# Altium footprint library Samtec.PcbLib: 4 footprints
Each footprint in its own frame and in the unit in brackets; x right, y up, seen from the top. Pads: shape width x height; smd on the part's side, far side on the other; paste and mask are expansions set on the pad; w line width, h text height; cw(c..) or ccw(c..) is an arc to the next point about the centre after c.
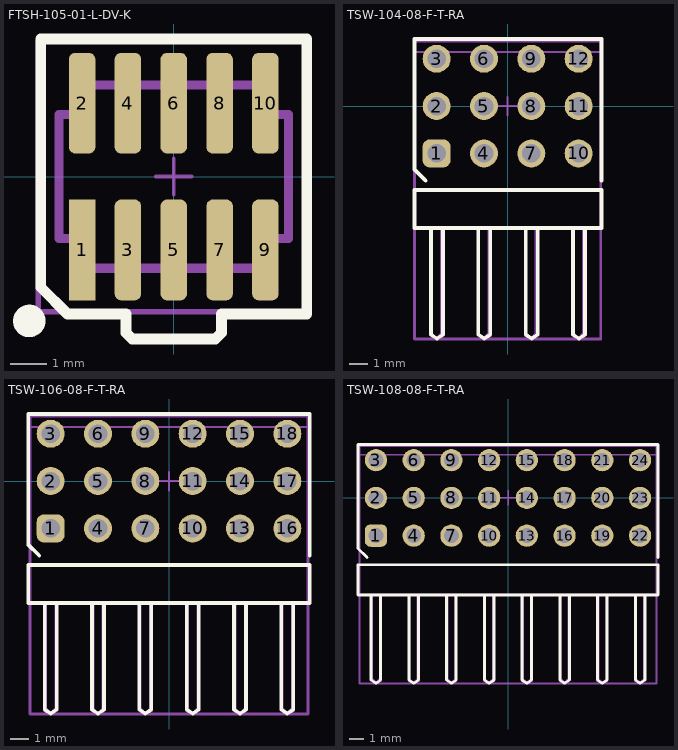
[diagram p0: the footprints below, top view; thin cyan lines are the x and y axes]

## FTSH-105-01-L-DV-K [mil] "CONN HEADER 10 POS DUAL .05\" SMD"
pads (10):
  rect 29x110 smd mask+2: 1(-100,-80)
  rrect50% 29x110 smd mask+2: 2(-100,80) 3(-50,-80) 4(-50,80) 5(0,-80) 6(0,80) 7(50,-80) 8(50,80) 9(100,-80) 10(100,80)
Top Overlay:
  circle w19.68: c-157.48,-157.48 r7.87
  lines w11.81: -145,-120.75 -145,150 145,150 145,-150 72.5,-150 52.13,-150 52.13,-170.37 45.33,-177.17 -45.33,-177.17 -52.13,-170.37 -52.13,-150 -72.5,-150 -115.75,-150 -145,-120.75
Mechanical 13:
  lines w10: -125,-67.5 -125,67.5 -100,67.5 -100,100 100,100 100,67.5 125,67.5 125,-67.5 100,-67.5 100,-100 -100,-100 -100,-67.5 -125,-67.5
Mechanical 15:
  lines w3.94: -19.68,0 19.68,0 ; 0,-19.68 0,19.68
  lines w5.91: -147.64,-147.64 -147.64,147.64 147.64,147.64 147.64,-147.64 -147.64,-147.64
Mechanical 17 (Mech17):
  text ".Designator" at -15.75,-7.87 h59.06
3D body "FTSH-105-01-L-DV-K.stp": height 240.75, standoff -0.25, extent -124.99,-114.99 125,115

## TSW-104-08-F-T-RA [mm]
pads (12):
  rrect50% 1.5x1.5 hole 1: 1(-3.81,-2.54)
  round 1.5 hole 1: 2(-3.81,0) 3(-3.81,2.54) 4(-1.27,-2.54) 5(-1.27,0) 6(-1.27,2.54) 7(1.27,-2.54) 8(1.27,0) 9(1.27,2.54) 10(3.81,-2.54) 11(3.81,0) 12(3.81,2.54)
Top Overlay:
  lines w0.2: -4.4,-4 -5,-3.4 -5,3.6 5.04,3.6 5.04,-4 ; -4.11,-6.545 -4.11,-12.27 -3.79,-12.47 -3.47,-12.27 -3.47,-6.545 ; -1.57,-6.545 -1.57,-12.27 -1.25,-12.47 -0.93,-12.27 -0.93,-6.545 ; 0.97,-6.545 0.97,-12.27 1.29,-12.47 1.61,-12.27 1.61,-6.545 ; 3.51,-6.545 3.51,-12.27 3.83,-12.47 4.15,-12.27 4.15,-6.545 ; -5,-6.545 -5,-4.5 5.04,-4.5 5.04,-6.545 -5,-6.545
Mechanical 13:
  lines w0.1: -4.075,-6.5 -4.075,-12.196 -3.825,-12.446 -3.575,-12.196 ; -3.575,-6.5 -3.575,-12.196 ; -1.54,-6.5 -1.54,-12.192 -1.29,-12.442 -1.04,-12.192 ; -1.04,-6.5 -1.04,-12.192 ; 1,-6.5 1,-12.196 1.25,-12.446 1.5,-12.196 ; 1.5,-6.5 1.5,-12.196 ; 3.54,-6.5 3.54,-12.196 3.79,-12.446 4.04,-12.196 ; 4.04,-6.5 4.04,-12.196 ; -3.575,-12.196 -3.575,-12.196 ; -1.04,-12.192 -1.04,-12.192 ; 1.5,-12.196 1.5,-12.196 ; 4.04,-12.196 4.04,-12.196 ; -5,-6.5 -5,2.9 5.02,2.9 5.02,-6.5 -5,-6.5
Mechanical 15:
  lines w0.1: -0.5,0 0.5,0 ; 0,-0.5 0,0.5
  lines w0.15: -5,-12.5 -5,3.5 5,3.5 5,-12.5 -5,-12.5
Mechanical 17 (Mech17):
  text ".Designator" at -0.4,-0.2 h1.5
3D body "TSW-104-08-F-T-RA.stp": height 0.6, standoff -9.81, extent -5.08,-12.432 5.08,2.871

## TSW-106-08-F-T-RA [mm]
pads (18):
  rrect50% 1.5x1.5 hole 1: 1(-6.35,-2.54)
  round 1.5 hole 1: 2(-6.35,0) 3(-6.35,2.54) 4(-3.81,-2.54) 5(-3.81,0) 6(-3.81,2.54) 7(-1.27,-2.54) 8(-1.27,0) 9(-1.27,2.54) 10(1.27,-2.54) 11(1.27,0) 12(1.27,2.54) 13(3.81,-2.54) 14(3.81,0) 15(3.81,2.54) 16(6.35,-2.54) 17(6.35,0) 18(6.35,2.54)
Top Overlay:
  lines w0.2: -6.96,-4 -7.56,-3.4 -7.56,3.6 7.56,3.6 7.56,-4 ; -6.67,-6.545 -6.67,-12.27 -6.35,-12.47 -6.03,-12.27 -6.03,-6.545 ; -4.13,-6.545 -4.13,-12.27 -3.81,-12.47 -3.49,-12.27 -3.49,-6.545 ; -1.59,-6.545 -1.59,-12.27 -1.27,-12.47 -0.95,-12.27 -0.95,-6.545 ; 0.95,-6.545 0.95,-12.27 1.27,-12.47 1.59,-12.27 1.59,-6.545 ; 3.49,-6.545 3.49,-12.27 3.81,-12.47 4.13,-12.27 4.13,-6.545 ; 6.03,-6.545 6.03,-12.27 6.35,-12.47 6.67,-12.27 6.67,-6.545 ; -7.56,-6.545 -7.56,-4.5 7.56,-4.5 7.56,-6.545 -7.56,-6.545
Mechanical 13:
  lines w0.1: -6.596,-6.5 -6.596,-12.192 -6.346,-12.442 -6.096,-12.192 ; -6.096,-6.5 -6.096,-12.192 ; -4.06,-6.5 -4.06,-12.196 -3.81,-12.446 -3.56,-12.196 ; -3.56,-6.5 -3.56,-12.196 ; -1.52,-6.5 -1.52,-12.196 -1.27,-12.446 -1.02,-12.196 ; -1.02,-6.5 -1.02,-12.196 ; 1.02,-6.5 1.02,-12.196 1.27,-12.446 1.52,-12.196 ; 1.52,-6.5 1.52,-12.196 ; 3.565,-6.5 3.565,-12.196 3.815,-12.446 4.065,-12.196 ; 4.065,-6.5 4.065,-12.196 ; 6.1,-6.5 6.1,-12.192 6.35,-12.442 6.6,-12.192 ; 6.6,-6.5 6.6,-12.192 ; -6.096,-12.192 -6.096,-12.192 ; -3.56,-12.196 -3.56,-12.196 ; -1.02,-12.196 -1.02,-12.196 ; 1.52,-12.196 1.52,-12.196 ; 4.065,-12.196 4.065,-12.196 ; 6.6,-12.192 6.6,-12.192 ; -7.46,-6.5 7.46,-6.5 7.46,2.9 -7.46,2.9 -7.46,-6.5
Mechanical 15:
  lines w0.1: -0.5,0 0.5,0 ; 0,-0.5 0,0.5
  lines w0.15: -7.46,-12.5 7.46,-12.5 7.46,3.5 -7.46,3.5 -7.46,-12.5
Mechanical 17 (Mech17):
  text ".Designator" at -0.4,-0.2 h1.5
3D body "TSW-106-08-F-T-RA.stp": height 0.6, standoff -9.81, extent -7.62,-12.432 7.62,2.871

## TSW-108-08-F-T-RA [mm]
pads (24):
  rrect50% 1.5x1.5 hole 1: 1(-8.89,-2.54)
  round 1.5 hole 1: 2(-8.89,0) 3(-8.89,2.54) 4(-6.35,-2.54) 5(-6.35,0) 6(-6.35,2.54) 7(-3.81,-2.54) 8(-3.81,0) 9(-3.81,2.54) 10(-1.27,-2.54) 11(-1.27,0) 12(-1.27,2.54) 13(1.27,-2.54) 14(1.27,0) 15(1.27,2.54) 16(3.81,-2.54) 17(3.81,0) 18(3.81,2.54) 19(6.35,-2.54) 20(6.35,0) 21(6.35,2.54) 22(8.89,-2.54) 23(8.89,0) 24(8.89,2.54)
Top Overlay:
  lines w0.2: -9.5,-4 -10.1,-3.4 -10.1,3.6 10.1,3.6 10.1,-4 ; -9.21,-6.545 -9.21,-12.27 -8.89,-12.47 -8.57,-12.27 -8.57,-6.545 ; -6.67,-6.545 -6.67,-12.27 -6.35,-12.47 -6.03,-12.27 -6.03,-6.545 ; -4.13,-6.545 -4.13,-12.27 -3.81,-12.47 -3.49,-12.27 -3.49,-6.545 ; -1.59,-6.545 -1.59,-12.27 -1.27,-12.47 -0.95,-12.27 -0.95,-6.545 ; 0.95,-6.545 0.95,-12.27 1.27,-12.47 1.59,-12.27 1.59,-6.545 ; 3.49,-6.545 3.49,-12.27 3.81,-12.47 4.13,-12.27 4.13,-6.545 ; 6.03,-6.545 6.03,-12.27 6.35,-12.47 6.67,-12.27 6.67,-6.545 ; 8.57,-6.545 8.57,-12.27 8.89,-12.47 9.21,-12.27 9.21,-6.545 ; -10.1,-6.545 10.1,-6.545 10.1,-4.5 -10.1,-4.5 -10.1,-6.545
Mechanical 13:
  lines w0.1: -9.136,-6.5 -9.136,-12.192 -8.886,-12.442 -8.636,-12.192 ; -8.636,-6.5 -8.636,-12.192 ; -6.6,-6.5 -6.6,-12.196 -6.35,-12.446 -6.1,-12.196 ; -6.1,-6.5 -6.1,-12.196 ; -4.06,-6.5 -4.06,-12.196 -3.81,-12.446 -3.56,-12.196 ; -3.56,-6.5 -3.56,-12.196 ; -1.52,-6.5 -1.52,-12.196 -1.27,-12.446 -1.02,-12.196 ; -1.02,-6.5 -1.02,-12.196 ; 1.025,-6.5 1.025,-12.196 1.275,-12.446 1.525,-12.196 ; 1.525,-6.5 1.525,-12.196 ; 3.56,-6.5 3.56,-12.192 3.81,-12.442 4.06,-12.192 ; 4.06,-6.5 4.06,-12.192 ; 6.1,-6.5 6.1,-12.196 6.35,-12.446 6.6,-12.196 ; 6.6,-6.5 6.6,-12.196 ; 8.64,-6.5 8.64,-12.196 8.89,-12.446 9.14,-12.196 ; 9.14,-6.5 9.14,-12.196 ; -8.636,-12.192 -8.636,-12.192 ; -6.1,-12.196 -6.1,-12.196 ; -3.56,-12.196 -3.56,-12.196 ; -1.02,-12.196 -1.02,-12.196 ; 1.525,-12.196 1.525,-12.196 ; 4.06,-12.192 4.06,-12.192 ; 6.6,-12.196 6.6,-12.196 ; 9.14,-12.196 9.14,-12.196 ; -10,-6.5 -10,2.9 10,2.9 10,-6.5 -10,-6.5
Mechanical 15:
  lines w0.1: -0.5,0 0.5,0 ; 0,-0.5 0,0.5
  lines w0.15: -10,-12.5 -10,3.5 10,3.5 10,-12.5 -10,-12.5
Mechanical 17 (Mech17):
  text ".Designator" at -0.4,-0.2 h1.5
3D body "Samtec-TSW-108-08-F-T-RA.stp": height 0.6, standoff -9.81, extent -10.16,-12.432 10.16,2.871